# Altium integrated library TI Amplifiers and Linear Operational Amplifier High Speed.IntLib: 1100 symbols (part 36 of 44)
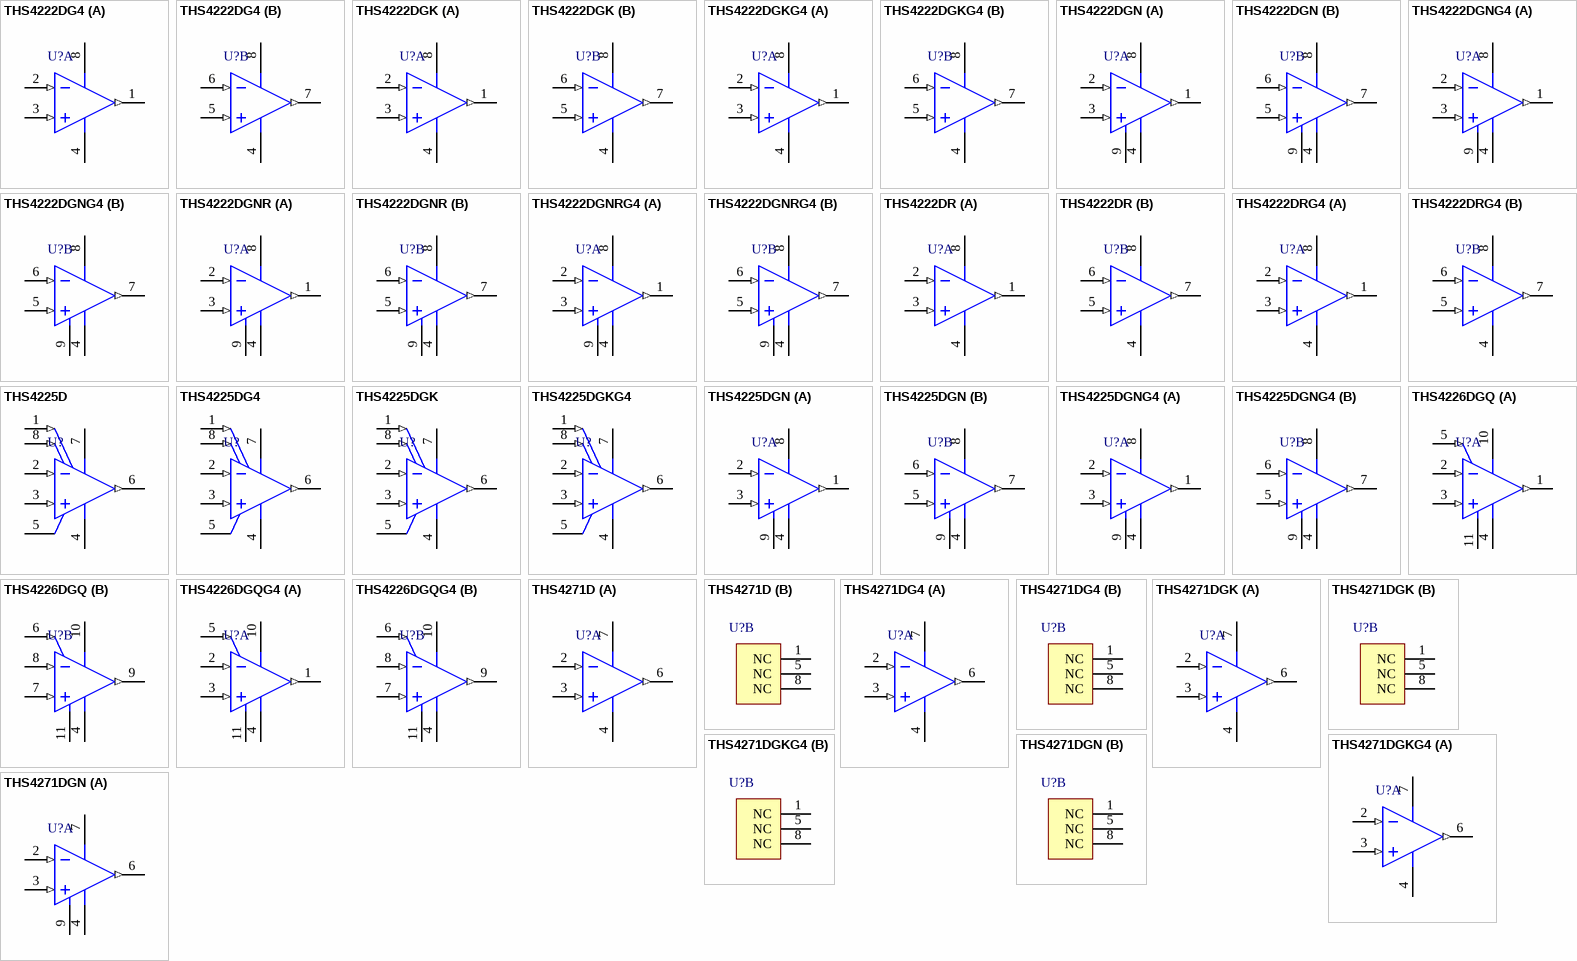
[diagram p86: symbols THS4222DG4 to THS4271DGN]

## THS4222DGKG4
designator U?
Low-Distortion High-Speed Rail-to-Rail Output, 2.7 to 15 V, -40 to 85 degC, 8-pin SOP (DGK8), Green (RoHS & no Sb/Br); Manufacturer: Texas Instruments; PartNumber: THS4222DGKG4; 2nd Harmonic(dBc): 90; 3rd Harmonic(dBc): 100; @ MHz: 5; Acl, min stable gain(V/V): 1; BW @ Acl(MHz): 230; Diff Gain(%): 0.007; Diff Phase(deg): 0.0068; Iib(Max)(nA): 5000; Number of Channels: 2; Rail-Rail: Out; Settling Time (0.1%)(Typ)(ns): 25; Slew Rate(Typ)(V/us): 975; Sub Family: High Output Current Amplifier (>=50mA), High Speed Amplifier (>=50MHz); THD (Fc is 1 MHz)(Typ)(dB): -100; Vio(Max)(mV): 3; Vn at Flatband(Typ)(nV/rtHz): 13; Vs(Max)(V): 15; Vs(Min)(V): 2.7; DatasheetVersion: SLOS399G; PackageVersion: 4073329/E, 05/2006; PackageReference: DGK8; PackageDescription: 8-Pin Thin Small Outline, Body 3 x 3 mm, Pitch 0.65 mm; Supplier 1: Digi-Key; Supplier Part Number 1: THS4222DGKG4-ND; Supplier 2: Newark; Supplier Part Number 2: 81K4031; Supplier 3: Mouser; Supplier Part Number 3: 595-THS4222DGKG4; Eco-Plan: Green (RoHS & no Sb/Br); Io(Typ)(mA): 100; Mounting Technology: Surface Mount; Code_JEDEC: MO-187; ComponentLink1Description: Manufacturer URL; ComponentLink1URL: http://www.ti.com/; ComponentLink2Description: Datasheet; ComponentLink2URL: http://www.ti.com/general/docs/lit/getliterature.tsp?genericPartNumber=THS4222&fileType=pdf; ComponentLink3Description: Package Specification; ComponentLink3URL: http://www.ti.com/litv/pdf/mpds028d
footprint TI-DGK8_N (SOP, 8-Leads, Body 3x3mm, Pitch 0.65mm, IPC Medium Density)
footprint TI-DGK8_L (SOP, 8-Leads, Body 3x3mm, Pitch 0.65mm, IPC High Density)
footprint TI-DGK8_M (SOP, 8-Leads, Body 3x3mm, Pitch 0.65mm, IPC Low Density)
pins on every part: 4 VS- (power), 8 VS+ (power)
part A pins: 1 OUT1 (out), 2 IN1- (in), 3 IN1+ (in)
part B pins: 5 IN2+ (in), 6 IN2- (in), 7 OUT2 (out)

## THS4222DGN
designator U?
Low-Distortion High-Speed Rail-to-Rail Output, 2.7 to 15 V, -40 to 85 degC, 8-pin SOP (DGN8), Green (RoHS & no Sb/Br); Manufacturer: Texas Instruments; PartNumber: THS4222DGN; 2nd Harmonic(dBc): 90; 3rd Harmonic(dBc): 100; @ MHz: 5; Acl, min stable gain(V/V): 1; BW @ Acl(MHz): 230; Diff Gain(%): 0.007; Diff Phase(deg): 0.0068; Iib(Max)(nA): 5000; Number of Channels: 2; Rail-Rail: Out; Settling Time (0.1%)(Typ)(ns): 25; Slew Rate(Typ)(V/us): 975; Sub Family: High Output Current Amplifier (>=50mA), High Speed Amplifier (>=50MHz); THD (Fc is 1 MHz)(Typ)(dB): -100; Vio(Max)(mV): 3; Vn at Flatband(Typ)(nV/rtHz): 13; Vs(Max)(V): 15; Vs(Min)(V): 2.7; DatasheetVersion: SLOS399G; PackageVersion: 4073271/F, 05/2011; PackageReference: DGN8-1760X1425TP; PackageDescription: 8-pin Plastic Small Outline, Body 3 x 3 mm, Pitch 0.65 mm; Supplier 1: Digi-Key; Supplier Part Number 1: 296-13638-5-ND; Supplier 2: Newark; Supplier Part Number 2: 02E7121; Supplier 3: Mouser; Supplier Part Number 3: 595-THS4222DGN; Eco-Plan: Green (RoHS & no Sb/Br); Io(Typ)(mA): 100; Mounting Technology: Surface Mount; Code_JEDEC: MO-187; ComponentLink1Description: Manufacturer URL; ComponentLink1URL: http://www.ti.com/; ComponentLink2Description: Datasheet; ComponentLink2URL: http://www.ti.com/general/docs/lit/getliterature.tsp?genericPartNumber=THS4222&fileType=pdf; ComponentLink3Description: Package Specification; ComponentLink3URL: http://www.ti.com/litv/pdf/mpds046e
footprint TI-DGN8-1760X1425TP_N (SOP, 8-Leads, Body 3x3mm, Pitch 0.65mm, Thermal Pad 1.76x1.425mm, IPC Medium Density)
footprint TI-DGN8-1760X1425TP_L (SOP, 8-Leads, Body 3x3mm, Pitch 0.65mm, Thermal Pad 1.76x1.425mm, IPC High Density)
footprint TI-DGN8-1760X1425TP_M (SOP, 8-Leads, Body 3x3mm, Pitch 0.65mm, Thermal Pad 1.76 x 1.425 mm, IPC Low Density)
pins on every part: 4 VS- (power), 8 VS+ (power), 9 EP (power)
part A pins: 1 OUT1 (out), 2 IN1- (in), 3 IN1+ (in)
part B pins: 5 IN2+ (in), 6 IN2- (in), 7 OUT2 (out)

## THS4222DGNG4
designator U?
Low-Distortion High-Speed Rail-to-Rail Output, 2.7 to 15 V, -40 to 85 degC, 8-pin SOP (DGN8), Green (RoHS & no Sb/Br); Manufacturer: Texas Instruments; PartNumber: THS4222DGNG4; 2nd Harmonic(dBc): 90; 3rd Harmonic(dBc): 100; @ MHz: 5; Acl, min stable gain(V/V): 1; BW @ Acl(MHz): 230; Diff Gain(%): 0.007; Diff Phase(deg): 0.0068; Iib(Max)(nA): 5000; Number of Channels: 2; Rail-Rail: Out; Settling Time (0.1%)(Typ)(ns): 25; Slew Rate(Typ)(V/us): 975; Sub Family: High Output Current Amplifier (>=50mA), High Speed Amplifier (>=50MHz); THD (Fc is 1 MHz)(Typ)(dB): -100; Vio(Max)(mV): 3; Vn at Flatband(Typ)(nV/rtHz): 13; Vs(Max)(V): 15; Vs(Min)(V): 2.7; DatasheetVersion: SLOS399G; PackageVersion: 4073271/F, 05/2011; PackageReference: DGN8-1760X1425TP; PackageDescription: 8-pin Plastic Small Outline, Body 3 x 3 mm, Pitch 0.65 mm; Supplier 1: Digi-Key; Supplier Part Number 1: THS4222DGNG4-ND; Supplier 2: Mouser; Supplier Part Number 2: 595-THS4222DGNG4; Eco-Plan: Green (RoHS & no Sb/Br); Io(Typ)(mA): 100; Mounting Technology: Surface Mount; Code_JEDEC: MO-187; ComponentLink1Description: Manufacturer URL; ComponentLink1URL: http://www.ti.com/; ComponentLink2Description: Datasheet; ComponentLink2URL: http://www.ti.com/general/docs/lit/getliterature.tsp?genericPartNumber=THS4222&fileType=pdf; ComponentLink3Description: Package Specification; ComponentLink3URL: http://www.ti.com/litv/pdf/mpds046e
footprint TI-DGN8-1760X1425TP_N (SOP, 8-Leads, Body 3x3mm, Pitch 0.65mm, Thermal Pad 1.76x1.425mm, IPC Medium Density)
footprint TI-DGN8-1760X1425TP_L (SOP, 8-Leads, Body 3x3mm, Pitch 0.65mm, Thermal Pad 1.76x1.425mm, IPC High Density)
footprint TI-DGN8-1760X1425TP_M (SOP, 8-Leads, Body 3x3mm, Pitch 0.65mm, Thermal Pad 1.76 x 1.425 mm, IPC Low Density)
pins on every part: 4 VS- (power), 8 VS+ (power), 9 EP (power)
part A pins: 1 OUT1 (out), 2 IN1- (in), 3 IN1+ (in)
part B pins: 5 IN2+ (in), 6 IN2- (in), 7 OUT2 (out)

## THS4222DGNR
designator U?
Low-Distortion High-Speed Rail-to-Rail Output, 2.7 to 15 V, -40 to 85 degC, 8-pin SOP (DGN8), Green (RoHS & no Sb/Br); Manufacturer: Texas Instruments; PartNumber: THS4222DGNR; 2nd Harmonic(dBc): 90; 3rd Harmonic(dBc): 100; @ MHz: 5; Acl, min stable gain(V/V): 1; BW @ Acl(MHz): 230; Diff Gain(%): 0.007; Diff Phase(deg): 0.0068; Iib(Max)(nA): 5000; Number of Channels: 2; Rail-Rail: Out; Settling Time (0.1%)(Typ)(ns): 25; Slew Rate(Typ)(V/us): 975; Sub Family: High Output Current Amplifier (>=50mA), High Speed Amplifier (>=50MHz); THD (Fc is 1 MHz)(Typ)(dB): -100; Vio(Max)(mV): 3; Vn at Flatband(Typ)(nV/rtHz): 13; Vs(Max)(V): 15; Vs(Min)(V): 2.7; DatasheetVersion: SLOS399G; PackageVersion: 4073271/F, 05/2011; PackageReference: DGN8-1760X1425TP; PackageDescription: 8-pin Plastic Small Outline, Body 3 x 3 mm, Pitch 0.65 mm; Supplier 1: Digi-Key; Supplier Part Number 1: THS4222DGNR-ND; Supplier 2: Mouser; Supplier Part Number 2: 595-THS4222DGNR; Eco-Plan: Green (RoHS & no Sb/Br); Io(Typ)(mA): 100; Mounting Technology: Surface Mount; Code_JEDEC: MO-187; ComponentLink1Description: Manufacturer URL; ComponentLink1URL: http://www.ti.com/; ComponentLink2Description: Datasheet; ComponentLink2URL: http://www.ti.com/general/docs/lit/getliterature.tsp?genericPartNumber=THS4222&fileType=pdf; ComponentLink3Description: Package Specification; ComponentLink3URL: http://www.ti.com/litv/pdf/mpds046e
footprint TI-DGN8-1760X1425TP_N (SOP, 8-Leads, Body 3x3mm, Pitch 0.65mm, Thermal Pad 1.76x1.425mm, IPC Medium Density)
footprint TI-DGN8-1760X1425TP_L (SOP, 8-Leads, Body 3x3mm, Pitch 0.65mm, Thermal Pad 1.76x1.425mm, IPC High Density)
footprint TI-DGN8-1760X1425TP_M (SOP, 8-Leads, Body 3x3mm, Pitch 0.65mm, Thermal Pad 1.76 x 1.425 mm, IPC Low Density)
pins on every part: 4 VS- (power), 8 VS+ (power), 9 EP (power)
part A pins: 1 OUT1 (out), 2 IN1- (in), 3 IN1+ (in)
part B pins: 5 IN2+ (in), 6 IN2- (in), 7 OUT2 (out)

## THS4222DGNRG4
designator U?
Low-Distortion High-Speed Rail-to-Rail Output, 2.7 to 15 V, -40 to 85 degC, 8-pin SOP (DGN8), Green (RoHS & no Sb/Br); Manufacturer: Texas Instruments; PartNumber: THS4222DGNRG4; 2nd Harmonic(dBc): 90; 3rd Harmonic(dBc): 100; @ MHz: 5; Acl, min stable gain(V/V): 1; BW @ Acl(MHz): 230; Diff Gain(%): 0.007; Diff Phase(deg): 0.0068; Iib(Max)(nA): 5000; Number of Channels: 2; Rail-Rail: Out; Settling Time (0.1%)(Typ)(ns): 25; Slew Rate(Typ)(V/us): 975; Sub Family: High Output Current Amplifier (>=50mA), High Speed Amplifier (>=50MHz); THD (Fc is 1 MHz)(Typ)(dB): -100; Vio(Max)(mV): 3; Vn at Flatband(Typ)(nV/rtHz): 13; Vs(Max)(V): 15; Vs(Min)(V): 2.7; DatasheetVersion: SLOS399G; PackageVersion: 4073271/F, 05/2011; PackageReference: DGN8-1760X1425TP; PackageDescription: 8-pin Plastic Small Outline, Body 3 x 3 mm, Pitch 0.65 mm; Supplier 1: Digi-Key; Supplier Part Number 1: THS4222DGNRG4-ND; Supplier 2: Mouser; Supplier Part Number 2: 595-THS4222DGNRG4; Eco-Plan: Green (RoHS & no Sb/Br); Io(Typ)(mA): 100; Mounting Technology: Surface Mount; Code_JEDEC: MO-187; ComponentLink1Description: Manufacturer URL; ComponentLink1URL: http://www.ti.com/; ComponentLink2Description: Datasheet; ComponentLink2URL: http://www.ti.com/general/docs/lit/getliterature.tsp?genericPartNumber=THS4222&fileType=pdf; ComponentLink3Description: Package Specification; ComponentLink3URL: http://www.ti.com/litv/pdf/mpds046e
footprint TI-DGN8-1760X1425TP_N (SOP, 8-Leads, Body 3x3mm, Pitch 0.65mm, Thermal Pad 1.76x1.425mm, IPC Medium Density)
footprint TI-DGN8-1760X1425TP_L (SOP, 8-Leads, Body 3x3mm, Pitch 0.65mm, Thermal Pad 1.76x1.425mm, IPC High Density)
footprint TI-DGN8-1760X1425TP_M (SOP, 8-Leads, Body 3x3mm, Pitch 0.65mm, Thermal Pad 1.76 x 1.425 mm, IPC Low Density)
pins on every part: 4 VS- (power), 8 VS+ (power), 9 EP (power)
part A pins: 1 OUT1 (out), 2 IN1- (in), 3 IN1+ (in)
part B pins: 5 IN2+ (in), 6 IN2- (in), 7 OUT2 (out)

## THS4222DR
designator U?
Low-Distortion High-Speed Rail-to-Rail Output, 2.7 to 15 V, -40 to 85 degC, 8-pin SOIC (D8), Green (RoHS & no Sb/Br); Manufacturer: Texas Instruments; PartNumber: THS4222DR; 2nd Harmonic(dBc): 90; 3rd Harmonic(dBc): 100; @ MHz: 5; Acl, min stable gain(V/V): 1; BW @ Acl(MHz): 230; Diff Gain(%): 0.007; Diff Phase(deg): 0.0068; Iib(Max)(nA): 5000; Number of Channels: 2; Rail-Rail: Out; Settling Time (0.1%)(Typ)(ns): 25; Slew Rate(Typ)(V/us): 975; Sub Family: High Output Current Amplifier (>=50mA), High Speed Amplifier (>=50MHz); THD (Fc is 1 MHz)(Typ)(dB): -100; Vio(Max)(mV): 3; Vn at Flatband(Typ)(nV/rtHz): 13; Vs(Max)(V): 15; Vs(Min)(V): 2.7; DatasheetVersion: SLOS399G; PackageVersion: 4040047-3/M, 06/2011; PackageReference: D8; PackageDescription: 8-Pin Plastic Small Outline, Body 4.9 x 3.9 mm, Pitch 1.27 mm; Supplier 1: Digi-Key; Supplier Part Number 1: THS4222DR-ND; Supplier 2: Mouser; Supplier Part Number 2: 595-THS4222DR; Eco-Plan: Green (RoHS & no Sb/Br); Io(Typ)(mA): 100; Mounting Technology: Surface Mount; Code_JEDEC: MS-012; ComponentLink1Description: Manufacturer URL; ComponentLink1URL: http://www.ti.com/; ComponentLink2Description: Datasheet; ComponentLink2URL: http://www.ti.com/general/docs/lit/getliterature.tsp?genericPartNumber=THS4222&fileType=pdf; ComponentLink3Description: Package Specification; ComponentLink3URL: http://www.ti.com/litv/pdf/msoi002j
footprint TI-D8_N (SOIC, 8-Leads, Body 4.9x3.9mm, Pitch 1.27mm, IPC Medium Density)
footprint TI-D8_L (SOIC, 8-Leads, Body 4.9x3.9mm, Pitch 1.27mm, IPC High Density)
footprint TI-D8_M (SOIC, 8-Leads, Body 4.9x3.9mm, Pitch 1.27mm, IPC Low Density)
pins on every part: 4 VS- (power), 8 VS+ (power)
part A pins: 1 OUT1 (out), 2 IN1- (in), 3 IN1+ (in)
part B pins: 5 IN2+ (in), 6 IN2- (in), 7 OUT2 (out)

## THS4222DRG4
designator U?
Low-Distortion High-Speed Rail-to-Rail Output, 2.7 to 15 V, -40 to 85 degC, 8-pin SOIC (D8), Green (RoHS & no Sb/Br); Manufacturer: Texas Instruments; PartNumber: THS4222DRG4; 2nd Harmonic(dBc): 90; 3rd Harmonic(dBc): 100; @ MHz: 5; Acl, min stable gain(V/V): 1; BW @ Acl(MHz): 230; Diff Gain(%): 0.007; Iib(Max)(nA): 5000; Number of Channels: 2; Settling Time (0.1%)(Typ)(ns): 25; Slew Rate(Typ)(V/us): 975; Sub Family: High Output Current Amplifier (>=50mA), High Speed Amplifier (>=50MHz); THD (Fc is 1 MHz)(Typ)(dB): -100; Vio(Max)(mV): 3; Vn at Flatband(Typ)(nV/rtHz): 13; Vs(Max)(V): 15; Vs(Min)(V): 2.7; DatasheetVersion: SLOS399G; PackageVersion: 4040047-3/M, 06/2011; PackageReference: D8; PackageDescription: 8-Pin Plastic Small Outline, Body 4.9 x 3.9 mm, Pitch 1.27 mm; Supplier 1: Digi-Key; Supplier Part Number 1: THS4222DRG4-ND; Supplier 2: Mouser; Supplier Part Number 2: 595-THS4222DRG4; Diff Phase(deg): 0.007; Eco-Plan: Green (RoHS & no Sb/Br); Io(Typ)(mA): 100; Mounting Technology: Surface Mount; Code_JEDEC: MS-012; ComponentLink1Description: Manufacturer URL; ComponentLink1URL: http://www.ti.com/; ComponentLink2Description: Datasheet; ComponentLink2URL: http://www.ti.com/general/docs/lit/getliterature.tsp?genericPartNumber=THS4222&fileType=pdf; ComponentLink3Description: Package Specification; ComponentLink3URL: http://www.ti.com/litv/pdf/msoi002j
footprint TI-D8_N (SOIC, 8-Leads, Body 4.9x3.9mm, Pitch 1.27mm, IPC Medium Density)
footprint TI-D8_L (SOIC, 8-Leads, Body 4.9x3.9mm, Pitch 1.27mm, IPC High Density)
footprint TI-D8_M (SOIC, 8-Leads, Body 4.9x3.9mm, Pitch 1.27mm, IPC Low Density)
pins on every part: 4 VS- (power), 8 VS+ (power)
part A pins: 1 OUT1 (out), 2 IN1- (in), 3 IN1+ (in)
part B pins: 5 IN2+ (in), 6 IN2- (in), 7 OUT2 (out)

## THS4225D
designator U?
Low-Distortion High-Speed Rail-to-Rail Output Operational Amplifier, 2.7 to 15 V, -40 to 85 degC, 8-pin SOIC (D8), Green (RoHS & no Sb/Br); Manufacturer: Texas Instruments; PartNumber: THS4225D; 2nd Harmonic(dBc): 90; 3rd Harmonic(dBc): 100; @ MHz: 5; Acl, min stable gain(V/V): 1; BW @ Acl(MHz): 230; Diff Gain(%): 0.007; Iib(Max)(nA): 5000; Rail-Rail: Out; Settling Time (0.1%)(Typ)(ns): 25; Slew Rate(Typ)(V/us): 975; Sub Family: High Output Current Amplifier (>=50mA), High Speed Amplifier (>=50MHz); THD (Fc is 1 MHz)(Typ)(dB): -100; Vio(Max)(mV): 16; Vn at Flatband(Typ)(nV/rtHz): 13; Vs(Max)(V): 15; Vs(Min)(V): 2.7; DatasheetVersion: SLOS399G; PackageVersion: 4040047-3/M, 06/2011; PackageReference: D8; PackageDescription: 8-Pin Plastic Small Outline, Body 4.9 x 3.9 mm, Pitch 1.27 mm; Supplier 1: Digi-Key; Supplier Part Number 1: 296-14195-5-ND; Supplier 2: Newark; Supplier Part Number 2: 32H6495; Supplier 3: Mouser; Supplier Part Number 3: 595-THS4225D; Diff Phase(deg): 0.007; Eco-Plan: Green (RoHS & no Sb/Br); Io(Typ)(mA): 100; Number of Channels: 1; Mounting Technology: Surface Mount; Code_JEDEC: MS-012; ComponentLink1Description: Manufacturer URL; ComponentLink1URL: http://www.ti.com/; ComponentLink2Description: Datasheet; ComponentLink2URL: http://www.ti.com/general/docs/lit/getliterature.tsp?genericPartNumber=THS4225&fileType=pdf; ComponentLink3Description: Package Specification; ComponentLink3URL: http://www.ti.com/litv/pdf/msoi002j
footprint TI-D8_N (SOIC, 8-Leads, Body 4.9x3.9mm, Pitch 1.27mm, IPC Medium Density)
footprint TI-D8_L (SOIC, 8-Leads, Body 4.9x3.9mm, Pitch 1.27mm, IPC High Density)
footprint TI-D8_M (SOIC, 8-Leads, Body 4.9x3.9mm, Pitch 1.27mm, IPC Low Density)
pins: 1 REF (in), 2 IN- (in), 3 IN+ (in), 4 VS- (power), 5 NC, 6 VOUT (out), 7 VS+ (power), 8 ~{PD} (in)

## THS4225DG4
designator U?
Low-Distortion High-Speed Rail-to-Rail Output Operational Amplifier, 2.7 to 15 V, -40 to 85 degC, 8-pin SOIC (D8), Green (RoHS & no Sb/Br); Manufacturer: Texas Instruments; PartNumber: THS4225DG4; 2nd Harmonic(dBc): 90; 3rd Harmonic(dBc): 100; @ MHz: 5; Acl, min stable gain(V/V): 1; BW @ Acl(MHz): 230; Diff Gain(%): 0.007; Iib(Max)(nA): 5000; Rail-Rail: Out; Settling Time (0.1%)(Typ)(ns): 25; Slew Rate(Typ)(V/us): 975; Sub Family: High Output Current Amplifier (>=50mA), High Speed Amplifier (>=50MHz); THD (Fc is 1 MHz)(Typ)(dB): -100; Vio(Max)(mV): 16; Vn at Flatband(Typ)(nV/rtHz): 13; Vs(Max)(V): 15; Vs(Min)(V): 2.7; DatasheetVersion: SLOS399G; PackageVersion: 4040047-3/M, 06/2011; PackageReference: D8; PackageDescription: 8-Pin Plastic Small Outline, Body 4.9 x 3.9 mm, Pitch 1.27 mm; Supplier 1: Digi-Key; Supplier Part Number 1: THS4225DG4-ND; Supplier 2: Mouser; Supplier Part Number 2: 595-THS4225DG4; Diff Phase(deg): 0.007; Eco-Plan: Green (RoHS & no Sb/Br); Io(Typ)(mA): 100; Number of Channels: 1; Mounting Technology: Surface Mount; Code_JEDEC: MS-012; ComponentLink1Description: Manufacturer URL; ComponentLink1URL: http://www.ti.com/; ComponentLink2Description: Datasheet; ComponentLink2URL: http://www.ti.com/general/docs/lit/getliterature.tsp?genericPartNumber=THS4225&fileType=pdf; ComponentLink3Description: Package Specification; ComponentLink3URL: http://www.ti.com/litv/pdf/msoi002j
footprint TI-D8_N (SOIC, 8-Leads, Body 4.9x3.9mm, Pitch 1.27mm, IPC Medium Density)
footprint TI-D8_L (SOIC, 8-Leads, Body 4.9x3.9mm, Pitch 1.27mm, IPC High Density)
footprint TI-D8_M (SOIC, 8-Leads, Body 4.9x3.9mm, Pitch 1.27mm, IPC Low Density)
pins: 1 REF (in), 2 IN- (in), 3 IN+ (in), 4 VS- (power), 5 NC, 6 VOUT (out), 7 VS+ (power), 8 ~{PD} (in)

## THS4225DGK
designator U?
Low-Distortion High-Speed Rail-to-Rail Output Operational Amplifier, 2.7 to 15 V, -40 to 85 degC, 8-pin SOP (DGK8), Green (RoHS & no Sb/Br); Manufacturer: Texas Instruments; PartNumber: THS4225DGK; 2nd Harmonic(dBc): 90; 3rd Harmonic(dBc): 100; @ MHz: 5; Acl, min stable gain(V/V): 1; BW @ Acl(MHz): 230; Diff Gain(%): 0.007; Iib(Max)(nA): 5000; Rail-Rail: Out; Settling Time (0.1%)(Typ)(ns): 25; Slew Rate(Typ)(V/us): 975; Sub Family: High Output Current Amplifier (>=50mA), High Speed Amplifier (>=50MHz); THD (Fc is 1 MHz)(Typ)(dB): -100; Vio(Max)(mV): 16; Vn at Flatband(Typ)(nV/rtHz): 13; Vs(Max)(V): 15; Vs(Min)(V): 2.7; DatasheetVersion: SLOS399G; PackageVersion: 4073329/E, 05/2006; PackageReference: DGK8; PackageDescription: 8-Pin Thin Small Outline, Body 3 x 3 mm, Pitch 0.65 mm; Supplier 1: Digi-Key; Supplier Part Number 1: 296-16784-5-ND; Supplier 2: Mouser; Supplier Part Number 2: 595-THS4225DGK; Diff Phase(deg): 0.007; Eco-Plan: Green (RoHS & no Sb/Br); Io(Typ)(mA): 100; Number of Channels: 1; Mounting Technology: Surface Mount; Code_JEDEC: MO-187; ComponentLink1Description: Manufacturer URL; ComponentLink1URL: http://www.ti.com/; ComponentLink2Description: Datasheet; ComponentLink2URL: http://www.ti.com/general/docs/lit/getliterature.tsp?genericPartNumber=THS4225&fileType=pdf; ComponentLink3Description: Package Specification; ComponentLink3URL: http://www.ti.com/litv/pdf/mpds028d
footprint TI-DGK8_N (SOP, 8-Leads, Body 3x3mm, Pitch 0.65mm, IPC Medium Density)
footprint TI-DGK8_L (SOP, 8-Leads, Body 3x3mm, Pitch 0.65mm, IPC High Density)
footprint TI-DGK8_M (SOP, 8-Leads, Body 3x3mm, Pitch 0.65mm, IPC Low Density)
pins: 1 REF (in), 2 IN- (in), 3 IN+ (in), 4 VS- (power), 5 NC, 6 VOUT (out), 7 VS+ (power), 8 ~{PD} (in)

## THS4225DGKG4
designator U?
Low-Distortion High-Speed Rail-to-Rail Output Operational Amplifier, 2.7 to 15 V, -40 to 85 degC, 8-pin SOP (DGK8), Green (RoHS & no Sb/Br); Manufacturer: Texas Instruments; PartNumber: THS4225DGKG4; 2nd Harmonic(dBc): 90; 3rd Harmonic(dBc): 100; @ MHz: 5; Acl, min stable gain(V/V): 1; BW @ Acl(MHz): 230; Diff Gain(%): 0.007; Iib(Max)(nA): 5000; Rail-Rail: Out; Settling Time (0.1%)(Typ)(ns): 25; Slew Rate(Typ)(V/us): 975; Sub Family: High Output Current Amplifier (>=50mA), High Speed Amplifier (>=50MHz); THD (Fc is 1 MHz)(Typ)(dB): -100; Vio(Max)(mV): 16; Vn at Flatband(Typ)(nV/rtHz): 13; Vs(Max)(V): 15; Vs(Min)(V): 2.7; DatasheetVersion: SLOS399G; PackageVersion: 4073329/E, 05/2006; PackageReference: DGK8; PackageDescription: 8-Pin Thin Small Outline, Body 3 x 3 mm, Pitch 0.65 mm; Supplier 1: Digi-Key; Supplier Part Number 1: THS4225DGKG4-ND; Supplier 2: Mouser; Supplier Part Number 2: 595-THS4225DGKG4; Diff Phase(deg): 0.007; Eco-Plan: Green (RoHS & no Sb/Br); Io(Typ)(mA): 100; Number of Channels: 1; Mounting Technology: Surface Mount; Code_JEDEC: MO-187; ComponentLink1Description: Manufacturer URL; ComponentLink1URL: http://www.ti.com/; ComponentLink2Description: Datasheet; ComponentLink2URL: http://www.ti.com/general/docs/lit/getliterature.tsp?genericPartNumber=THS4225&fileType=pdf; ComponentLink3Description: Package Specification; ComponentLink3URL: http://www.ti.com/litv/pdf/mpds028d
footprint TI-DGK8_N (SOP, 8-Leads, Body 3x3mm, Pitch 0.65mm, IPC Medium Density)
footprint TI-DGK8_L (SOP, 8-Leads, Body 3x3mm, Pitch 0.65mm, IPC High Density)
footprint TI-DGK8_M (SOP, 8-Leads, Body 3x3mm, Pitch 0.65mm, IPC Low Density)
pins: 1 REF (in), 2 IN- (in), 3 IN+ (in), 4 VS- (power), 5 NC, 6 VOUT (out), 7 VS+ (power), 8 ~{PD} (in)

## THS4225DGN
designator U?
Low-Distortion High-Speed Rail-to-Rail Output Operational Amplifier, 2.7 to 15 V, -40 to 85 degC, 8-pin SOP (DGN8), Green (RoHS & no Sb/Br); Manufacturer: Texas Instruments; PartNumber: THS4225DGN; 2nd Harmonic(dBc): 90; 3rd Harmonic(dBc): 100; @ MHz: 5; Acl, min stable gain(V/V): 1; BW @ Acl(MHz): 230; Diff Gain(%): 0.007; Iib(Max)(nA): 5000; Rail-Rail: Out; Settling Time (0.1%)(Typ)(ns): 25; Slew Rate(Typ)(V/us): 975; Sub Family: High Output Current Amplifier (>=50mA), High Speed Amplifier (>=50MHz); THD (Fc is 1 MHz)(Typ)(dB): -100; Vio(Max)(mV): 16; Vn at Flatband(Typ)(nV/rtHz): 13; Vs(Max)(V): 15; Vs(Min)(V): 2.7; DatasheetVersion: SLOS399G; PackageVersion: 4073271/F, 05/2011; PackageReference: DGN8-1760X1425TP; PackageDescription: 8-pin Plastic Small Outline, Body 3 x 3 mm, Pitch 0.65 mm; Supplier 1: Digi-Key; Supplier Part Number 1: 296-14403-5-ND; Supplier 2: Mouser; Supplier Part Number 2: 595-THS4225DGN; Diff Phase(deg): 0.007; Eco-Plan: Green (RoHS & no Sb/Br); Io(Typ)(mA): 100; Number of Channels: 1; Mounting Technology: Surface Mount; Code_JEDEC: MO-187; ComponentLink1Description: Manufacturer URL; ComponentLink1URL: http://www.ti.com/; ComponentLink2Description: Datasheet; ComponentLink2URL: http://www.ti.com/general/docs/lit/getliterature.tsp?genericPartNumber=THS4225&fileType=pdf; ComponentLink3Description: Package Specification; ComponentLink3URL: http://www.ti.com/litv/pdf/mpds046e
footprint TI-DGN8-1760X1425TP_N (SOP, 8-Leads, Body 3x3mm, Pitch 0.65mm, Thermal Pad 1.76x1.425mm, IPC Medium Density)
footprint TI-DGN8-1760X1425TP_L (SOP, 8-Leads, Body 3x3mm, Pitch 0.65mm, Thermal Pad 1.76x1.425mm, IPC High Density)
footprint TI-DGN8-1760X1425TP_M (SOP, 8-Leads, Body 3x3mm, Pitch 0.65mm, Thermal Pad 1.76 x 1.425 mm, IPC Low Density)
pins on every part: 4 VS- (power), 8 VS+ (power), 9 EP (power)
part A pins: 1 OUT1 (out), 2 IN1- (in), 3 IN1+ (in)
part B pins: 5 IN2+ (in), 6 IN2- (in), 7 OUT2 (out)

## THS4225DGNG4
designator U?
Low-Distortion High-Speed Rail-to-Rail Output Operational Amplifier, 2.7 to 15 V, -40 to 85 degC, 8-pin SOP (DGN8), Green (RoHS & no Sb/Br); Manufacturer: Texas Instruments; PartNumber: THS4225DGNG4; 2nd Harmonic(dBc): 90; 3rd Harmonic(dBc): 100; @ MHz: 5; Acl, min stable gain(V/V): 1; BW @ Acl(MHz): 230; Diff Gain(%): 0.007; Iib(Max)(nA): 5000; Iq per channel(Max)(mA): 11; Settling Time (0.1%)(Typ)(ns): 25; Slew Rate(Typ)(V/us): 975; Sub Family: High Output Current Amplifier (>=50mA), High Speed Amplifier (>=50MHz); THD (Fc is 1 MHz)(Typ)(dB): -100; Vio(Max)(mV): 16; Vn at Flatband(Typ)(nV/rtHz): 13; Vs(Max)(V): 15; Vs(Min)(V): 2.7; DatasheetVersion: SLOS399G; PackageVersion: 4073271/F, 05/2011; PackageReference: DGN8-1760X1425TP; PackageDescription: 8-pin Plastic Small Outline, Body 3 x 3 mm, Pitch 0.65 mm; Supplier 1: Digi-Key; Supplier Part Number 1: THS4225DGNG4-ND; Supplier 2: Mouser; Supplier Part Number 2: 595-THS4225DGNG4; Diff Phase(deg): 0.007; Eco-Plan: Green (RoHS & no Sb/Br); Io(Typ)(mA): 100; Number of Channels: 1; Mounting Technology: Surface Mount; Code_JEDEC: MO-187; ComponentLink1Description: Manufacturer URL; ComponentLink1URL: http://www.ti.com/; ComponentLink2Description: Datasheet; ComponentLink2URL: http://www.ti.com/general/docs/lit/getliterature.tsp?genericPartNumber=THS4225&fileType=pdf; ComponentLink3Description: Package Specification; ComponentLink3URL: http://www.ti.com/litv/pdf/mpds046e
footprint TI-DGN8-1760X1425TP_N (SOP, 8-Leads, Body 3x3mm, Pitch 0.65mm, Thermal Pad 1.76x1.425mm, IPC Medium Density)
footprint TI-DGN8-1760X1425TP_L (SOP, 8-Leads, Body 3x3mm, Pitch 0.65mm, Thermal Pad 1.76x1.425mm, IPC High Density)
footprint TI-DGN8-1760X1425TP_M (SOP, 8-Leads, Body 3x3mm, Pitch 0.65mm, Thermal Pad 1.76 x 1.425 mm, IPC Low Density)
pins on every part: 4 VS- (power), 8 VS+ (power), 9 EP (power)
part A pins: 1 OUT1 (out), 2 IN1- (in), 3 IN1+ (in)
part B pins: 5 IN2+ (in), 6 IN2- (in), 7 OUT2 (out)

## THS4226DGQ
designator U?
Low-Distortion High-Speed Rail-to-Rail Output with Shutdown, 2.7 to 15 V, -40 to 85 degC, 10-pin SOP (DGQ10), Green (RoHS & no Sb/Br); Manufacturer: Texas Instruments; PartNumber: THS4226DGQ; 2nd Harmonic(dBc): 90; 3rd Harmonic(dBc): 100; @ MHz: 5; Acl, min stable gain(V/V): 1; BW @ Acl(MHz): 230; Diff Gain(%): 0.007; Diff Phase(deg): 0.0068; Iib(Max)(nA): 5000; Number of Channels: 2; Rail-Rail: Out; Settling Time (0.1%)(Typ)(ns): 25; Slew Rate(Typ)(V/us): 975; Sub Family: High Output Current Amplifier (>=50mA), High Speed Amplifier (>=50MHz); THD (Fc is 1 MHz)(Typ)(dB): -100; Vio(Max)(mV): 3; Vn at Flatband(Typ)(nV/rtHz): 13; Vs(Max)(V): 15; Vs(Min)(V): 2.7; DatasheetVersion: SLOS399G; PackageVersion: 4073273/F, 11/2011; PackageReference: DGQ10-1675X1445TP; PackageDescription: 10-Pin Plastic Small Outline, Body 3 x 3 mm, Pitch 0.5 mm; Supplier 1: Digi-Key; Supplier Part Number 1: 296-13639-5-ND; Supplier 2: Newark; Supplier Part Number 2: 02E7124; Supplier 3: Mouser; Supplier Part Number 3: 595-THS4226DGQ; Eco-Plan: Green (RoHS & no Sb/Br); Io(Typ)(mA): 100; Mounting Technology: Surface Mount; Code_JEDEC: MO-187; ComponentLink1Description: Manufacturer URL; ComponentLink1URL: http://www.ti.com/; ComponentLink2Description: Datasheet; ComponentLink2URL: http://www.ti.com/general/docs/lit/getliterature.tsp?genericPartNumber=THS4226&fileType=pdf; ComponentLink3Description: Package Specification; ComponentLink3URL: http://www.ti.com/litv/pdf/mpds043e
footprint TI-DGQ10-1675X1445TP_N (SOP, 10-Leads, Body 3x3mm, Pitch 0.5mm, Thermal Pad 1.675x1.445mm, IPC Medium Density)
footprint TI-DGQ10-1675X1445TP_L (SOP, 10-Leads, Body 3x3mm, Pitch 0.5mm, Thermal Pad 1.675x1.445mm, IPC High Density)
footprint TI-DGQ10-1675X1445TP_M (SOP, 10-Leads, Body 3x3mm, Pitch 0.5mm, Thermal Pad 1.675x1.445mm, IPC Low Density)
pins on every part: 4 VS- (power), 10 VS+ (power), 11 EP
part A pins: 1 OUT1 (out), 2 IN1- (in), 3 IN1+ (in), 5 ~{PD1} (in)
part B pins: 6 ~{PD2} (in), 7 IN2+ (in), 8 IN2- (in), 9 OUT2 (out)

## THS4226DGQG4
designator U?
Low-Distortion High-Speed Rail-to-Rail Output with Shutdown, 2.7 to 15 V, -40 to 85 degC, 10-pin SOP (DGQ10), Green (RoHS & no Sb/Br); Manufacturer: Texas Instruments; PartNumber: THS4226DGQG4; 2nd Harmonic(dBc): 90; 3rd Harmonic(dBc): 100; @ MHz: 5; Acl, min stable gain(V/V): 1; BW @ Acl(MHz): 230; Diff Gain(%): 0.007; Iib(Max)(nA): 5000; Iq per channel(Max)(mA): 17; Number of Channels: 2; Rail-Rail: Out; Settling Time (0.1%)(Typ)(ns): 25; Slew Rate(Typ)(V/us): 975; Sub Family: High Output Current Amplifier (>=50mA), High Speed Amplifier (>=50MHz); THD (Fc is 1 MHz)(Typ)(dB): -100; Vio(Max)(mV): 16; Vn at Flatband(Typ)(nV/rtHz): 13; Vs(Max)(V): 15; Vs(Min)(V): 2.7; DatasheetVersion: SLOS399G; PackageVersion: 4073273/F, 11/2011; PackageReference: DGQ10-1675X1445TP; PackageDescription: 10-Pin Plastic Small Outline, Body 3 x 3 mm, Pitch 0.5 mm; Supplier 1: Digi-Key; Supplier Part Number 1: THS4226DGQG4-ND; Supplier 2: Mouser; Supplier Part Number 2: 595-THS4226DGQG4; Diff Phase(deg): 0.007; Eco-Plan: Green (RoHS & no Sb/Br); Io(Typ)(mA): 100; Mounting Technology: Surface Mount; Code_JEDEC: MO-187; ComponentLink1Description: Manufacturer URL; ComponentLink1URL: http://www.ti.com/; ComponentLink2Description: Datasheet; ComponentLink2URL: http://www.ti.com/general/docs/lit/getliterature.tsp?genericPartNumber=THS4226&fileType=pdf; ComponentLink3Description: Package Specification; ComponentLink3URL: http://www.ti.com/litv/pdf/mpds043e
footprint TI-DGQ10-1675X1445TP_N (SOP, 10-Leads, Body 3x3mm, Pitch 0.5mm, Thermal Pad 1.675x1.445mm, IPC Medium Density)
footprint TI-DGQ10-1675X1445TP_L (SOP, 10-Leads, Body 3x3mm, Pitch 0.5mm, Thermal Pad 1.675x1.445mm, IPC High Density)
footprint TI-DGQ10-1675X1445TP_M (SOP, 10-Leads, Body 3x3mm, Pitch 0.5mm, Thermal Pad 1.675x1.445mm, IPC Low Density)
pins on every part: 4 VS- (power), 10 VS+ (power), 11 EP
part A pins: 1 OUT1 (out), 2 IN1- (in), 3 IN1+ (in), 5 ~{PD1} (in)
part B pins: 6 ~{PD2} (in), 7 IN2+ (in), 8 IN2- (in), 9 OUT2 (out)

## THS4271D
designator U?
Super-Fast Ultra-Low Distortion High Speed Amplifier, 5 to 10 V, -40 to 85 degC, 8-pin SOIC (D8), Green (RoHS & no Sb/Br); Manufacturer: Texas Instruments; PartNumber: THS4271D; 2nd Harmonic(dBc): 92; 3rd Harmonic(dBc): 95; @ MHz: 30; Acl, min stable gain(V/V): 1; BW @ Acl(MHz): 1400; Diff Gain(%): 0.007; Diff Phase(deg): 0.004; Iib(Max)(nA): 18000; Io(Typ)(mA): 160; Iq per channel(Max)(mA): 28; Settling Time (0.1%)(Typ)(ns): 25; Slew Rate(Typ)(V/us): 1000; Sub Family: High Output Current Amplifier (>=50mA), High Speed Amplifier (>=50MHz); THD (Fc is 1 MHz)(Typ)(dB): -92; Vio(Max)(mV): 12; Vn at Flatband(Typ)(nV/rtHz): 3; Vs(Max)(V): 10; Vs(Min)(V): 5; DatasheetVersion: SLOS397F; PackageVersion: 4040047-3/M, 06/2011; PackageReference: D8; PackageDescription: 8-Pin Plastic Small Outline, Body 4.9 x 3.9 mm, Pitch 1.27 mm; Supplier 1: Digi-Key; Supplier Part Number 1: 296-13823-5-ND; Supplier 2: Farnell; Supplier Part Number 2: 1103109; Supplier 3: Newark; Supplier Part Number 3: 02E7126; Supplier 4: Mouser; Supplier Part Number 4: 595-THS4271D; Eco-Plan: Green (RoHS & no Sb/Br); Number of Channels: 1; Mounting Technology: Surface Mount; Code_JEDEC: MS-012; ComponentLink1Description: Manufacturer URL; ComponentLink1URL: http://www.ti.com/; ComponentLink2Description: Datasheet; ComponentLink2URL: http://www.ti.com/general/docs/lit/getliterature.tsp?genericPartNumber=THS4271&fileType=pdf; ComponentLink3Description: Package Specification; ComponentLink3URL: http://www.ti.com/litv/pdf/msoi002j
footprint TI-D8_N (SOIC, 8-Leads, Body 4.9x3.9mm, Pitch 1.27mm, IPC Medium Density)
footprint TI-D8_L (SOIC, 8-Leads, Body 4.9x3.9mm, Pitch 1.27mm, IPC High Density)
footprint TI-D8_M (SOIC, 8-Leads, Body 4.9x3.9mm, Pitch 1.27mm, IPC Low Density)
part A pins: 2 IN- (in), 3 IN+ (in), 4 VS- (power), 6 VOUT (out), 7 VS+ (power)
part B pins: 1 NC, 5 NC, 8 NC

## THS4271DG4
designator U?
Super-Fast Ultra-Low Distortion High Speed Amplifier, 5 to 10 V, -40 to 85 degC, 8-pin SOIC (D8), Green (RoHS & no Sb/Br); Manufacturer: Texas Instruments; PartNumber: THS4271DG4; 2nd Harmonic(dBc): 92; 3rd Harmonic(dBc): 95; @ MHz: 30; Acl, min stable gain(V/V): 1; BW @ Acl(MHz): 1400; Diff Gain(%): 0.007; Diff Phase(deg): 0.004; Iib(Max)(nA): 18000; Io(Typ)(mA): 160; Iq per channel(Max)(mA): 28; Settling Time (0.1%)(Typ)(ns): 25; Slew Rate(Typ)(V/us): 1000; Sub Family: High Output Current Amplifier (>=50mA), High Speed Amplifier (>=50MHz); THD (Fc is 1 MHz)(Typ)(dB): -92; Vio(Max)(mV): 12; Vn at Flatband(Typ)(nV/rtHz): 3; Vs(Max)(V): 10; Vs(Min)(V): 5; DatasheetVersion: SLOS397F; PackageVersion: 4040047-3/M, 06/2011; PackageReference: D8; PackageDescription: 8-Pin Plastic Small Outline, Body 4.9 x 3.9 mm, Pitch 1.27 mm; Supplier 1: Digi-Key; Supplier Part Number 1: THS4271DG4-ND; Supplier 2: Mouser; Supplier Part Number 2: 595-THS4271DG4; Eco-Plan: Green (RoHS & no Sb/Br); Number of Channels: 1; Mounting Technology: Surface Mount; Code_JEDEC: MS-012; ComponentLink1Description: Manufacturer URL; ComponentLink1URL: http://www.ti.com/; ComponentLink2Description: Datasheet; ComponentLink2URL: http://www.ti.com/general/docs/lit/getliterature.tsp?genericPartNumber=THS4271&fileType=pdf; ComponentLink3Description: Package Specification; ComponentLink3URL: http://www.ti.com/litv/pdf/msoi002j
footprint TI-D8_N (SOIC, 8-Leads, Body 4.9x3.9mm, Pitch 1.27mm, IPC Medium Density)
footprint TI-D8_L (SOIC, 8-Leads, Body 4.9x3.9mm, Pitch 1.27mm, IPC High Density)
footprint TI-D8_M (SOIC, 8-Leads, Body 4.9x3.9mm, Pitch 1.27mm, IPC Low Density)
part A pins: 2 IN- (in), 3 IN+ (in), 4 VS- (power), 6 VOUT (out), 7 VS+ (power)
part B pins: 1 NC, 5 NC, 8 NC

## THS4271DGK
designator U?
Super-Fast Ultra-Low Distortion High Speed Amplifier, 5 to 10 V, -40 to 85 degC, 8-pin SOP (DGK8), Green (RoHS & no Sb/Br); Manufacturer: Texas Instruments; PartNumber: THS4271DGK; 2nd Harmonic(dBc): 92; 3rd Harmonic(dBc): 95; @ MHz: 30; Acl, min stable gain(V/V): 1; BW @ Acl(MHz): 1400; Diff Gain(%): 0.007; Diff Phase(deg): 0.004; Iib(Max)(nA): 18000; Io(Typ)(mA): 160; Iq per channel(Max)(mA): 28; Settling Time (0.1%)(Typ)(ns): 25; Slew Rate(Typ)(V/us): 1000; Sub Family: High Output Current Amplifier (>=50mA), High Speed Amplifier (>=50MHz); THD (Fc is 1 MHz)(Typ)(dB): -92; Vio(Max)(mV): 12; Vn at Flatband(Typ)(nV/rtHz): 3; Vs(Max)(V): 10; Vs(Min)(V): 5; DatasheetVersion: SLOS397F; PackageVersion: 4073329/E, 05/2006; PackageReference: DGK8; PackageDescription: 8-Pin Thin Small Outline, Body 3 x 3 mm, Pitch 0.65 mm; Supplier 1: Digi-Key; Supplier Part Number 1: 296-16785-5-ND; Supplier 2: Mouser; Supplier Part Number 2: 595-THS4271DGK; Eco-Plan: Green (RoHS & no Sb/Br); Number of Channels: 1; Mounting Technology: Surface Mount; Code_JEDEC: MO-187; ComponentLink1Description: Manufacturer URL; ComponentLink1URL: http://www.ti.com/; ComponentLink2Description: Datasheet; ComponentLink2URL: http://www.ti.com/general/docs/lit/getliterature.tsp?genericPartNumber=THS4271&fileType=pdf; ComponentLink3Description: Package Specification; ComponentLink3URL: http://www.ti.com/litv/pdf/mpds028d
footprint TI-DGK8_N (SOP, 8-Leads, Body 3x3mm, Pitch 0.65mm, IPC Medium Density)
footprint TI-DGK8_L (SOP, 8-Leads, Body 3x3mm, Pitch 0.65mm, IPC High Density)
footprint TI-DGK8_M (SOP, 8-Leads, Body 3x3mm, Pitch 0.65mm, IPC Low Density)
part A pins: 2 IN- (in), 3 IN+ (in), 4 VS- (power), 6 VOUT (out), 7 VS+ (power)
part B pins: 1 NC, 5 NC, 8 NC

## THS4271DGKG4
designator U?
Super-Fast Ultra-Low Distortion High Speed Amplifier, 5 to 10 V, -40 to 85 degC, 8-pin SOP (DGK8), Green (RoHS & no Sb/Br); Manufacturer: Texas Instruments; PartNumber: THS4271DGKG4; 2nd Harmonic(dBc): 92; 3rd Harmonic(dBc): 95; @ MHz: 30; Acl, min stable gain(V/V): 1; BW @ Acl(MHz): 1400; Diff Gain(%): 0.007; Diff Phase(deg): 0.004; Iib(Max)(nA): 18000; Io(Typ)(mA): 160; Iq per channel(Max)(mA): 28; Settling Time (0.1%)(Typ)(ns): 25; Slew Rate(Typ)(V/us): 1000; Sub Family: High Output Current Amplifier (>=50mA), High Speed Amplifier (>=50MHz); THD (Fc is 1 MHz)(Typ)(dB): -92; Vio(Max)(mV): 12; Vn at Flatband(Typ)(nV/rtHz): 3; Vs(Max)(V): 10; Vs(Min)(V): 5; DatasheetVersion: SLOS397F; PackageVersion: 4073329/E, 05/2006; PackageReference: DGK8; PackageDescription: 8-Pin Thin Small Outline, Body 3 x 3 mm, Pitch 0.65 mm; Supplier 1: Digi-Key; Supplier Part Number 1: THS4271DGKG4-ND; Supplier 2: Mouser; Supplier Part Number 2: 595-THS4271DGKG4; Eco-Plan: Green (RoHS & no Sb/Br); Number of Channels: 1; Mounting Technology: Surface Mount; Code_JEDEC: MO-187; ComponentLink1Description: Manufacturer URL; ComponentLink1URL: http://www.ti.com/; ComponentLink2Description: Datasheet; ComponentLink2URL: http://www.ti.com/general/docs/lit/getliterature.tsp?genericPartNumber=THS4271&fileType=pdf; ComponentLink3Description: Package Specification; ComponentLink3URL: http://www.ti.com/litv/pdf/mpds028d
footprint TI-DGK8_N (SOP, 8-Leads, Body 3x3mm, Pitch 0.65mm, IPC Medium Density)
footprint TI-DGK8_L (SOP, 8-Leads, Body 3x3mm, Pitch 0.65mm, IPC High Density)
footprint TI-DGK8_M (SOP, 8-Leads, Body 3x3mm, Pitch 0.65mm, IPC Low Density)
part A pins: 2 IN- (in), 3 IN+ (in), 4 VS- (power), 6 VOUT (out), 7 VS+ (power)
part B pins: 1 NC, 5 NC, 8 NC

## THS4271DGN
designator U?
Super-Fast Ultra-Low Distortion High Speed Amplifier, 5 to 10 V, -40 to 85 degC, 8-pin SOP (DGN8), Green (RoHS & no Sb/Br); Manufacturer: Texas Instruments; PartNumber: THS4271DGN; 2nd Harmonic(dBc): 92; 3rd Harmonic(dBc): 95; @ MHz: 30; Acl, min stable gain(V/V): 1; BW @ Acl(MHz): 1400; Diff Gain(%): 0.007; Diff Phase(deg): 0.004; Iib(Max)(nA): 18000; Io(Typ)(mA): 160; Iq per channel(Max)(mA): 28; Settling Time (0.1%)(Typ)(ns): 25; Slew Rate(Typ)(V/us): 1000; Sub Family: High Output Current Amplifier (>=50mA), High Speed Amplifier (>=50MHz); THD (Fc is 1 MHz)(Typ)(dB): -92; Vio(Max)(mV): 12; Vn at Flatband(Typ)(nV/rtHz): 3; Vs(Max)(V): 10; Vs(Min)(V): 5; DatasheetVersion: SLOS397F; PackageVersion: 4073271/F, 05/2011; PackageReference: DGN8-1760X1425TP; PackageDescription: 8-pin Plastic Small Outline, Body 3 x 3 mm, Pitch 0.65 mm; Supplier 1: Digi-Key; Supplier Part Number 1: 296-13659-5-ND; Supplier 2: Mouser; Supplier Part Number 2: 595-THS4271DGN; Eco-Plan: Green (RoHS & no Sb/Br); Number of Channels: 1; Mounting Technology: Surface Mount; Code_JEDEC: MO-187; ComponentLink1Description: Manufacturer URL; ComponentLink1URL: http://www.ti.com/; ComponentLink2Description: Datasheet; ComponentLink2URL: http://www.ti.com/general/docs/lit/getliterature.tsp?genericPartNumber=THS4271&fileType=pdf; ComponentLink3Description: Package Specification; ComponentLink3URL: http://www.ti.com/litv/pdf/mpds046e
footprint TI-DGN8-1760X1425TP_N (SOP, 8-Leads, Body 3x3mm, Pitch 0.65mm, Thermal Pad 1.76x1.425mm, IPC Medium Density)
footprint TI-DGN8-1760X1425TP_L (SOP, 8-Leads, Body 3x3mm, Pitch 0.65mm, Thermal Pad 1.76x1.425mm, IPC High Density)
footprint TI-DGN8-1760X1425TP_M (SOP, 8-Leads, Body 3x3mm, Pitch 0.65mm, Thermal Pad 1.76 x 1.425 mm, IPC Low Density)
part A pins: 2 IN- (in), 3 IN+ (in), 4 VS- (power), 6 VOUT (out), 7 VS+ (power), 9 EP (power)
part B pins: 1 NC, 5 NC, 8 NC

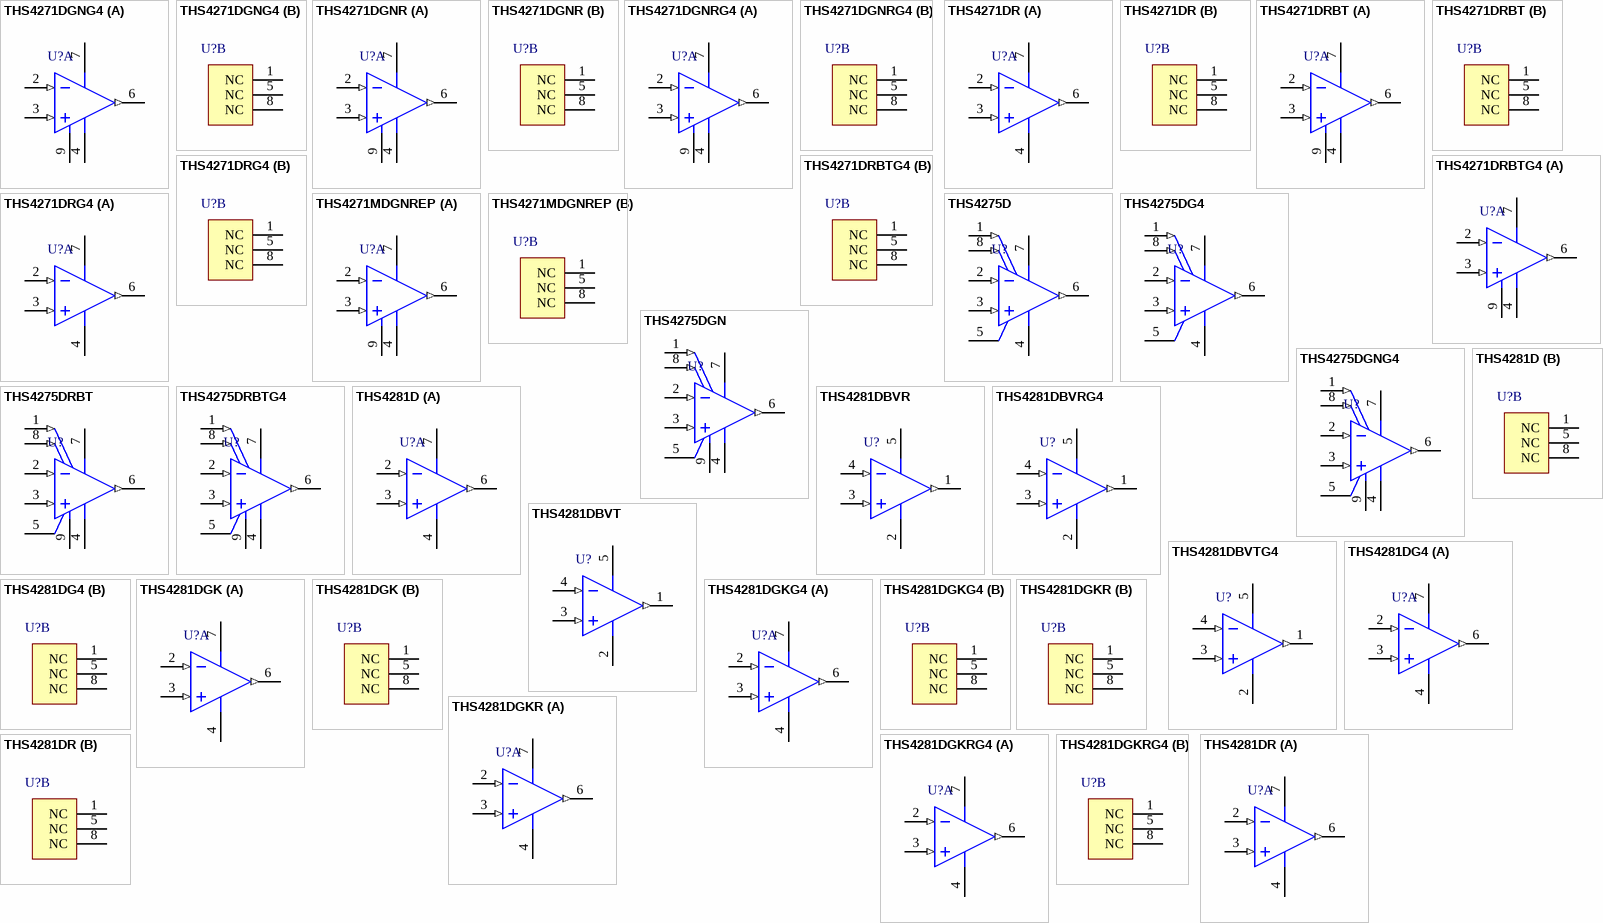
[diagram p42: symbols THS4271DGNG4 to THS4281DR]

## THS4271DGNG4
designator U?
Super-Fast Ultra-Low Distortion High Speed Amplifier, 5 to 10 V, -40 to 85 degC, 8-pin SOP (DGN8), Green (RoHS & no Sb/Br); Manufacturer: Texas Instruments; PartNumber: THS4271DGNG4; 2nd Harmonic(dBc): 92; 3rd Harmonic(dBc): 95; @ MHz: 30; Acl, min stable gain(V/V): 1; BW @ Acl(MHz): 1400; Diff Gain(%): 0.007; Diff Phase(deg): 0.004; Iib(Max)(nA): 18000; Io(Typ)(mA): 160; Iq per channel(Max)(mA): 28; Settling Time (0.1%)(Typ)(ns): 25; Slew Rate(Typ)(V/us): 1000; Sub Family: High Output Current Amplifier (>=50mA), High Speed Amplifier (>=50MHz); THD (Fc is 1 MHz)(Typ)(dB): -92; Vio(Max)(mV): 12; Vn at Flatband(Typ)(nV/rtHz): 3; Vs(Max)(V): 10; Vs(Min)(V): 5; DatasheetVersion: SLOS397F; PackageVersion: 4073271/F, 05/2011; PackageReference: DGN8-1760X1425TP; PackageDescription: 8-pin Plastic Small Outline, Body 3 x 3 mm, Pitch 0.65 mm; Supplier 1: Digi-Key; Supplier Part Number 1: THS4271DGNG4-ND; Supplier 2: Mouser; Supplier Part Number 2: 595-THS4271DGNG4; Eco-Plan: Green (RoHS & no Sb/Br); Number of Channels: 1; Mounting Technology: Surface Mount; Code_JEDEC: MO-187; ComponentLink1Description: Manufacturer URL; ComponentLink1URL: http://www.ti.com/; ComponentLink2Description: Datasheet; ComponentLink2URL: http://www.ti.com/general/docs/lit/getliterature.tsp?genericPartNumber=THS4271&fileType=pdf; ComponentLink3Description: Package Specification; ComponentLink3URL: http://www.ti.com/litv/pdf/mpds046e
footprint TI-DGN8-1760X1425TP_N (SOP, 8-Leads, Body 3x3mm, Pitch 0.65mm, Thermal Pad 1.76x1.425mm, IPC Medium Density)
footprint TI-DGN8-1760X1425TP_L (SOP, 8-Leads, Body 3x3mm, Pitch 0.65mm, Thermal Pad 1.76x1.425mm, IPC High Density)
footprint TI-DGN8-1760X1425TP_M (SOP, 8-Leads, Body 3x3mm, Pitch 0.65mm, Thermal Pad 1.76 x 1.425 mm, IPC Low Density)
part A pins: 2 IN- (in), 3 IN+ (in), 4 VS- (power), 6 VOUT (out), 7 VS+ (power), 9 EP (power)
part B pins: 1 NC, 5 NC, 8 NC

## THS4271DGNR
designator U?
Super-Fast Ultra-Low Distortion High Speed Amplifier, 5 to 10 V, -40 to 85 degC, 8-pin SOP (DGN8), Green (RoHS & no Sb/Br); Manufacturer: Texas Instruments; PartNumber: THS4271DGNR; 2nd Harmonic(dBc): 92; 3rd Harmonic(dBc): 95; @ MHz: 30; Acl, min stable gain(V/V): 1; BW @ Acl(MHz): 1400; Diff Gain(%): 0.007; Diff Phase(deg): 0.004; Iib(Max)(nA): 18000; Io(Typ)(mA): 160; Iq per channel(Max)(mA): 28; Settling Time (0.1%)(Typ)(ns): 25; Slew Rate(Typ)(V/us): 1000; Sub Family: High Output Current Amplifier (>=50mA), High Speed Amplifier (>=50MHz); THD (Fc is 1 MHz)(Typ)(dB): -92; Vio(Max)(mV): 12; Vn at Flatband(Typ)(nV/rtHz): 3; Vs(Max)(V): 10; Vs(Min)(V): 5; DatasheetVersion: SLOS397F; PackageVersion: 4073271/F, 05/2011; PackageReference: DGN8-1760X1425TP; PackageDescription: 8-pin Plastic Small Outline, Body 3 x 3 mm, Pitch 0.65 mm; Supplier 1: Digi-Key; Supplier Part Number 1: THS4271DGNR-ND; Supplier 2: Mouser; Supplier Part Number 2: 595-THS4271DGNR; Eco-Plan: Green (RoHS & no Sb/Br); Number of Channels: 1; Mounting Technology: Surface Mount; Code_JEDEC: MO-187; ComponentLink1Description: Manufacturer URL; ComponentLink1URL: http://www.ti.com/; ComponentLink2Description: Datasheet; ComponentLink2URL: http://www.ti.com/general/docs/lit/getliterature.tsp?genericPartNumber=THS4271&fileType=pdf; ComponentLink3Description: Package Specification; ComponentLink3URL: http://www.ti.com/litv/pdf/mpds046e
footprint TI-DGN8-1760X1425TP_N (SOP, 8-Leads, Body 3x3mm, Pitch 0.65mm, Thermal Pad 1.76x1.425mm, IPC Medium Density)
footprint TI-DGN8-1760X1425TP_L (SOP, 8-Leads, Body 3x3mm, Pitch 0.65mm, Thermal Pad 1.76x1.425mm, IPC High Density)
footprint TI-DGN8-1760X1425TP_M (SOP, 8-Leads, Body 3x3mm, Pitch 0.65mm, Thermal Pad 1.76 x 1.425 mm, IPC Low Density)
part A pins: 2 IN- (in), 3 IN+ (in), 4 VS- (power), 6 VOUT (out), 7 VS+ (power), 9 EP (power)
part B pins: 1 NC, 5 NC, 8 NC

## THS4271DGNRG4
designator U?
Super-Fast Ultra-Low Distortion High Speed Amplifier, 5 to 10 V, -40 to 85 degC, 8-pin SOP (DGN8), Green (RoHS & no Sb/Br); Manufacturer: Texas Instruments; PartNumber: THS4271DGNRG4; 2nd Harmonic(dBc): 92; 3rd Harmonic(dBc): 95; @ MHz: 30; Acl, min stable gain(V/V): 1; BW @ Acl(MHz): 1400; Diff Gain(%): 0.007; Diff Phase(deg): 0.004; Iib(Max)(nA): 18000; Io(Typ)(mA): 160; Iq per channel(Max)(mA): 28; Settling Time (0.1%)(Typ)(ns): 25; Slew Rate(Typ)(V/us): 1000; Sub Family: High Output Current Amplifier (>=50mA), High Speed Amplifier (>=50MHz); THD (Fc is 1 MHz)(Typ)(dB): -92; Vio(Max)(mV): 12; Vn at Flatband(Typ)(nV/rtHz): 3; Vs(Max)(V): 10; Vs(Min)(V): 5; DatasheetVersion: SLOS397F; PackageVersion: 4073271/F, 05/2011; PackageReference: DGN8-1760X1425TP; PackageDescription: 8-pin Plastic Small Outline, Body 3 x 3 mm, Pitch 0.65 mm; Supplier 1: Digi-Key; Supplier Part Number 1: THS4271DGNRG4-ND; Supplier 2: Mouser; Supplier Part Number 2: 595-THS4271DGNRG4; Eco-Plan: Green (RoHS & no Sb/Br); Number of Channels: 1; Mounting Technology: Surface Mount; Code_JEDEC: MO-187; ComponentLink1Description: Manufacturer URL; ComponentLink1URL: http://www.ti.com/; ComponentLink2Description: Datasheet; ComponentLink2URL: http://www.ti.com/general/docs/lit/getliterature.tsp?genericPartNumber=THS4271&fileType=pdf; ComponentLink3Description: Package Specification; ComponentLink3URL: http://www.ti.com/litv/pdf/mpds046e
footprint TI-DGN8-1760X1425TP_N (SOP, 8-Leads, Body 3x3mm, Pitch 0.65mm, Thermal Pad 1.76x1.425mm, IPC Medium Density)
footprint TI-DGN8-1760X1425TP_L (SOP, 8-Leads, Body 3x3mm, Pitch 0.65mm, Thermal Pad 1.76x1.425mm, IPC High Density)
footprint TI-DGN8-1760X1425TP_M (SOP, 8-Leads, Body 3x3mm, Pitch 0.65mm, Thermal Pad 1.76 x 1.425 mm, IPC Low Density)
part A pins: 2 IN- (in), 3 IN+ (in), 4 VS- (power), 6 VOUT (out), 7 VS+ (power), 9 EP (power)
part B pins: 1 NC, 5 NC, 8 NC

## THS4271DR
designator U?
Super-Fast Ultra-Low Distortion High Speed Amplifier, 5 to 10 V, -40 to 85 degC, 8-pin SOIC (D8), Green (RoHS & no Sb/Br); Manufacturer: Texas Instruments; PartNumber: THS4271DR; 2nd Harmonic(dBc): 92; 3rd Harmonic(dBc): 95; @ MHz: 30; Acl, min stable gain(V/V): 1; BW @ Acl(MHz): 1400; Diff Gain(%): 0.007; Diff Phase(deg): 0.004; Iib(Max)(nA): 18000; Io(Typ)(mA): 160; Iq per channel(Max)(mA): 28; Settling Time (0.1%)(Typ)(ns): 25; Slew Rate(Typ)(V/us): 1000; Sub Family: High Output Current Amplifier (>=50mA), High Speed Amplifier (>=50MHz); THD (Fc is 1 MHz)(Typ)(dB): -92; Vio(Max)(mV): 12; Vn at Flatband(Typ)(nV/rtHz): 3; Vs(Max)(V): 10; Vs(Min)(V): 5; DatasheetVersion: SLOS397F; PackageVersion: 4040047-3/M, 06/2011; PackageReference: D8; PackageDescription: 8-Pin Plastic Small Outline, Body 4.9 x 3.9 mm, Pitch 1.27 mm; Supplier 1: Digi-Key; Supplier Part Number 1: THS4271DR-ND; Supplier 2: Mouser; Supplier Part Number 2: 595-THS4271DR; Eco-Plan: Green (RoHS & no Sb/Br); Number of Channels: 1; Mounting Technology: Surface Mount; Code_JEDEC: MS-012; ComponentLink1Description: Manufacturer URL; ComponentLink1URL: http://www.ti.com/; ComponentLink2Description: Datasheet; ComponentLink2URL: http://www.ti.com/general/docs/lit/getliterature.tsp?genericPartNumber=THS4271&fileType=pdf; ComponentLink3Description: Package Specification; ComponentLink3URL: http://www.ti.com/litv/pdf/msoi002j
footprint TI-D8_N (SOIC, 8-Leads, Body 4.9x3.9mm, Pitch 1.27mm, IPC Medium Density)
footprint TI-D8_L (SOIC, 8-Leads, Body 4.9x3.9mm, Pitch 1.27mm, IPC High Density)
footprint TI-D8_M (SOIC, 8-Leads, Body 4.9x3.9mm, Pitch 1.27mm, IPC Low Density)
part A pins: 2 IN- (in), 3 IN+ (in), 4 VS- (power), 6 VOUT (out), 7 VS+ (power)
part B pins: 1 NC, 5 NC, 8 NC

## THS4271DRBT
designator U?
Super-Fast Ultra-Low Distortion High Speed Amplifier, 5 to 10 V, -40 to 85 degC, 8-pin SON (DRB8), Green (RoHS & no Sb/Br); Manufacturer: Texas Instruments; PartNumber: THS4271DRBT; 2nd Harmonic(dBc): 92; 3rd Harmonic(dBc): 95; @ MHz: 30; Acl, min stable gain(V/V): 1; BW @ Acl(MHz): 1400; Diff Gain(%): 0.007; Diff Phase(deg): 0.004; Iib(Max)(nA): 18000; Io(Typ)(mA): 160; Iq per channel(Max)(mA): 28; Settling Time (0.1%)(Typ)(ns): 25; Slew Rate(Typ)(V/us): 1000; Sub Family: High Output Current Amplifier (>=50mA), High Speed Amplifier (>=50MHz); THD (Fc is 1 MHz)(Typ)(dB): -92; Vio(Max)(mV): 12; Vn at Flatband(Typ)(nV/rtHz): 3; Vs(Max)(V): 10; Vs(Min)(V): 5; DatasheetVersion: SLOS397F; PackageVersion: 4203482-2/K, 06/2012; PackageReference: DRB8-1750X1500TP; PackageDescription: 8-Pin Plastic Small Outline, Body 3 x 3 mm, Pitch 0.65 mm; Supplier 1: Digi-Key; Supplier Part Number 1: 296-15405-2-ND; Supplier 2: Digi-Key; Supplier Part Number 2: 296-15405-1-ND; Supplier 3: Digi-Key; Supplier Part Number 3: 296-15405-6-ND; Supplier 4: Mouser; Supplier Part Number 4: 595-THS4271DRBT; Eco-Plan: Green (RoHS & no Sb/Br); Number of Channels: 1; Mounting Technology: Surface Mount; ComponentLink1Description: Manufacturer URL; ComponentLink1URL: http://www.ti.com/; ComponentLink2Description: Datasheet; ComponentLink2URL: http://www.ti.com/general/docs/lit/getliterature.tsp?genericPartNumber=THS4271&fileType=pdf; ComponentLink3Description: Package Specification; ComponentLink3URL: http://www.ti.com/litv/pdf/mpds118h
footprint TI-DRB8-1750X1500TP_V (SON, 8-Leads, Body 3x3mm, Pitch 0.65mm, Thermal Pad 1.50 x 3.8mm)
part A pins: 2 IN- (in), 3 IN+ (in), 4 VS- (power), 6 VOUT (out), 7 VS+ (power), 9 EP (power)
part B pins: 1 NC, 5 NC, 8 NC

## THS4271DRBTG4
designator U?
Super-Fast Ultra-Low Distortion High Speed Amplifier, 5 to 10 V, -40 to 85 degC, 8-pin SON (DRB8), Green (RoHS & no Sb/Br); Manufacturer: Texas Instruments; PartNumber: THS4271DRBTG4; 2nd Harmonic(dBc): 92; 3rd Harmonic(dBc): 95; @ MHz: 30; Acl, min stable gain(V/V): 1; BW @ Acl(MHz): 1400; Diff Gain(%): 0.007; Diff Phase(deg): 0.004; Iib(Max)(nA): 18000; Io(Typ)(mA): 160; Iq per channel(Max)(mA): 28; Settling Time (0.1%)(Typ)(ns): 25; Slew Rate(Typ)(V/us): 1000; Sub Family: High Output Current Amplifier (>=50mA), High Speed Amplifier (>=50MHz); THD (Fc is 1 MHz)(Typ)(dB): -92; Vio(Max)(mV): 12; Vn at Flatband(Typ)(nV/rtHz): 3; Vs(Max)(V): 10; Vs(Min)(V): 5; DatasheetVersion: SLOS397F; PackageVersion: 4203482-2/K, 06/2012; PackageReference: DRB8-1750X1500TP; PackageDescription: 8-Pin Plastic Small Outline, Body 3 x 3 mm, Pitch 0.65 mm; Supplier 1: Digi-Key; Supplier Part Number 1: THS4271DRBTG4-ND; Supplier 2: Mouser; Supplier Part Number 2: 595-THS4271DRBTG4; Eco-Plan: Green (RoHS & no Sb/Br); Number of Channels: 1; Mounting Technology: Surface Mount; ComponentLink1Description: Manufacturer URL; ComponentLink1URL: http://www.ti.com/; ComponentLink2Description: Datasheet; ComponentLink2URL: http://www.ti.com/general/docs/lit/getliterature.tsp?genericPartNumber=THS4271&fileType=pdf; ComponentLink3Description: Package Specification; ComponentLink3URL: http://www.ti.com/litv/pdf/mpds118h
footprint TI-DRB8-1750X1500TP_V (SON, 8-Leads, Body 3x3mm, Pitch 0.65mm, Thermal Pad 1.50 x 3.8mm)
part A pins: 2 IN- (in), 3 IN+ (in), 4 VS- (power), 6 VOUT (out), 7 VS+ (power), 9 EP (power)
part B pins: 1 NC, 5 NC, 8 NC